# Altium schematic symbol library General.SchLib: 27 symbols
Pins are listed as number, name and electrical type; pins without a type are passive.

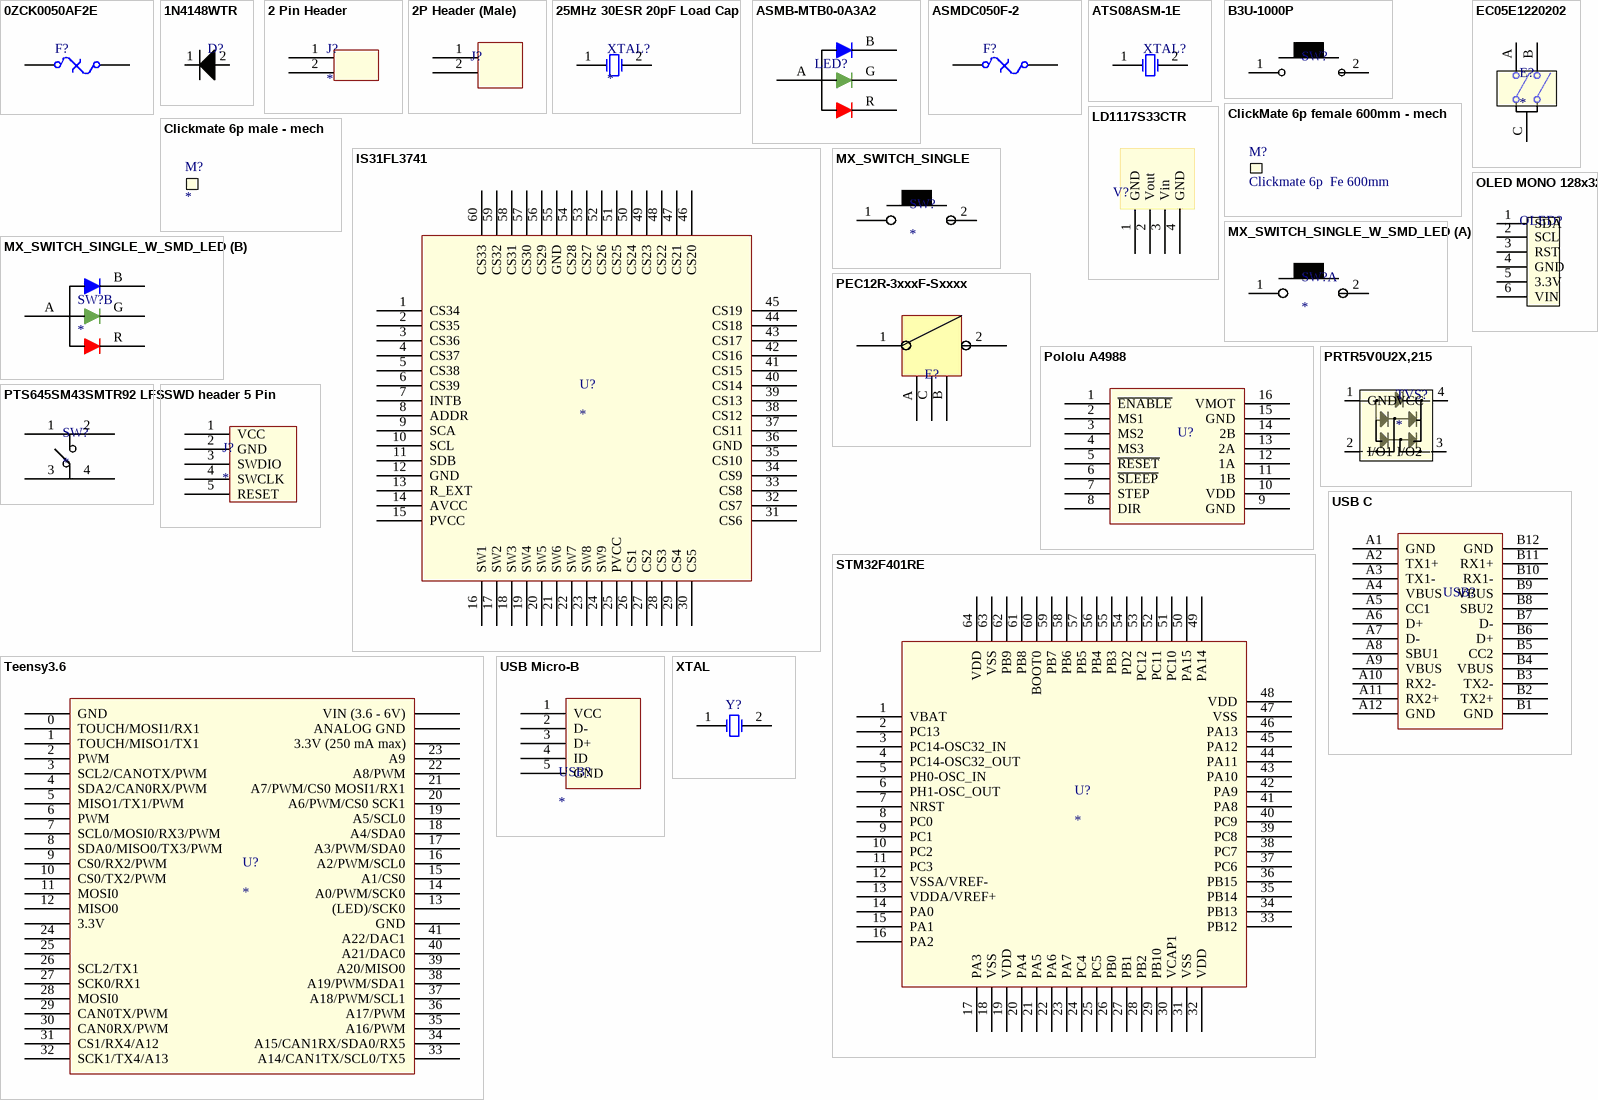
[diagram p0: symbols 0ZCK0050AF2E to XTAL]

## 0ZCK0050AF2E
designator F?
Thermal Fuse; Published: 24-Mar-1999; LatestRevisionDate: 17-Jul-2002; LatestRevisionNote: Re-released for DXP Platform.; PackageReference: PIN-W2/E2.8; Publisher: Altium Limited; PackageDescription: Thru-Hole; 2 Leads; Supplier 1: Mouser; Supplier Part Number 1: 530-0ZCK0050AF2E
footprint 0ZCK0050AF2E (Polyfuse 500mA hold 1A trip 0805)
pins: 1, 2

## 1N4148WTR
designator D?  (value not drawn)
Supplier 1: Digi-Key; Supplier Part Number 1: 1655-1360-1-ND
footprint SOD-123
pins: 1, 2

## 2 Pin Header
designator J?
footprint 2 Pin Header
pins: 1, 2

## 2P Header (Male)
designator J?  (value not drawn)
Supplier 1: Mouser; Supplier Part Number 1: 571-1037771
pins: 1 0, 2 1

## 25MHz 30ESR 20pF Load Cap
designator XTAL?
Supplier 1: Mouser; Supplier Part Number 1: 774-ATS25ASM-1E
footprint ATS25ASM-1E (25MHz Crystal)
pins: 1 OSC1, 2 OSC2

## ASMB-MTB0-0A3A2
designator LED?  (value not drawn)
Supplier 1: Mouser; Supplier Part Number 1: 630-ASMB-MTB0-0A3A2
footprint smd led (LED)
pins: A, B, G, R

## ASMDC050F-2
designator F?
Thermal Fuse; Published: 24-Mar-1999; LatestRevisionDate: 17-Jul-2002; LatestRevisionNote: Re-released for DXP Platform.; PackageReference: PIN-W2/E2.8; Publisher: Altium Limited; PackageDescription: Thru-Hole; 2 Leads; Supplier 1: Mouser; Supplier Part Number 1: 650-MINIASMDC050F-2
footprint ASMDC050F-2 (Resettable Fuses - PPTC .5A 60VDC 10A 2920 AEC-Q200 1A Trip)
pins: 1, 2

## ATS08ASM-1E
designator XTAL?  (value not drawn)
8MHz 60ESR 20pF; Supplier 1: Mouser; Supplier Part Number 1: 774-ATS08ASM-1E
footprint ATS25ASM-1E (25MHz Crystal)
pins: 1 OSC1, 2 OSC2

## B3U-1000P
designator SW?  (value not drawn)
Supplier 1: Mouser; Supplier Part Number 1: 653-B3U-1000P
footprint B3U-1000P (Switch Tactile SPST-NO 0.05A 12V)
pins: 1, 2

## ClickMate 6p female 600mm - mech
designator M?, comment Clickmate 6p  Fe 600mm  (mechanical)
Supplier 1: Digi-Key; Supplier Part Number 1: WM16513-ND

## Clickmate 6p male - mech
designator M?  (mechanical)
Supplier 1: Mouser; Supplier Part Number 1: 538-502585-0670

## EC05E1220202
designator E?
Supplier 1: Mouser; Supplier Part Number 1: 688-EC05E1220202
footprint EC05E1220202 (encoder, 4.5mm)
pins: A, B, C

## IS31FL3741
designator U?
Supplier 1: Mouser; Supplier Part Number 1: 870-IS31FL3741QFLS4T
footprint QFN-60 ISSI (QFN, 60-Leads, Body 7.00x7.00mm, Pitch 0.40mm, Thermal Pad 5.25x5.25mm, IPC Medium Density)
pins: 1 CS34, 2 CS35, 3 CS36, 4 CS37, 5 CS38, 6 CS39, 7 INTB, 8 ADDR, 9 SCA, 10 SCL, 11 SDB, 12 GND, 13 R_EXT, 14 AVCC, 15 PVCC, 16 SW1, 17 SW2, 18 SW3, 19 SW4, 20 SW5, 21 SW6, 22 SW7, 23 SW8, 24 SW9, 25 PVCC, 26 CS1, 27 CS2, 28 CS3, 29 CS4, 30 CS5, 31 CS6, 32 CS7, 33 CS8, 34 CS9, 35 CS10, 36 GND, 37 CS11, 38 CS12, 39 CS13, 40 CS14, 41 CS15, 42 CS16, 43 CS17, 44 CS18, 45 CS19, 46 CS20, 47 CS21, 48 CS22, 49 CS23, 50 CS24, 51 CS25, 52 CS26, 53 CS27, 54 CS28, 55 GND, 56 CS29, 57 CS30, 58 CS31, 59 CS32, 60 CS33

## LD1117S33CTR
designator V?, comment 3.3Vreg  (value not drawn)
Supplier 1: Mouser; Supplier Part Number 1: 511-LD1117S33C
footprint SOT223 STM (SOT223, 4-Leads, Body 6.50x7.00mm (avg), Pitch 2.30mm, IPC High Density)
pins: 1 GND, 2 Vout, 3 Vin, 4 GND

## MX_SWITCH_SINGLE
designator SW?
pins: 1, 2

## MX_SWITCH_SINGLE_W_SMD_LED
designator SW?
Supplier 1: Mouser; Supplier Part Number 1: 630-ASMB-MTB0-0A3A2
footprint SWITCH_U1_W_LED (single mx switch w surface mount led underneath)
footprint SWITCH_U1.25_W_LED (single mx switch w surface mount led underneath)
footprint SWITCH_U1.50_W_LED (single mx switch w surface mount led underneath)
footprint SWITCH_U1.75_W_LED (single mx switch w surface mount led underneath)
footprint SWITCH_U2_W_LED (U2 mx switch w surface mount led underneath)
footprint SWITCH_U2.25_W_LED (U2 mx switch w surface mount led underneath)
footprint SWITCH_U2.75_W_LED (U2 mx switch w surface mount led underneath)
footprint SWITCH_U6.25_W_LED - duplicate (U6.25 mx switch w surface mount led underneath)
footprint SWITCH_U2.25_W_LED inverse (U2 mx switch w surface mount led underneath)
footprint SWITCH_U2_W_LED - vert (U2 mx switch w surface mount led underneath)
part A pins: 1, 2
part B pins: A, B, G, R

## OLED MONO 128x32
designator OLED?  (value not drawn)
Supplier 1: Mouser; Supplier Part Number 1: 485-931
footprint 5025850670 (CONN SGL R/A RCPT 6CKT CLIK-MATE)
pins: 1 SDA, 2 SCL, 3 RST, 4 GND, 5 3.3V, 6 VIN

## PEC12R-3xxxF-Sxxxx
designator E?  (value not drawn)
footprint PEC12R-3xxxF-Sxxxx (Vertical Rotary Encoder)
pins: 1, 2, A, B, C

## Pololu A4988
designator U?  (value not drawn)
pins: 1 ~{ENABLE}, 2 MS1, 3 MS2, 4 MS3, 5 ~{RESET}, 6 ~{SLEEP}, 7 STEP, 8 DIR, 9 GND, 10 VDD, 11 1B, 12 1A, 13 2A, 14 2B, 15 GND, 16 VMOT

## PRTR5V0U2X,215
designator TVS?
Supplier 1: Mouser; Supplier Part Number 1: 771-PRTR5V0U2X-T/R
footprint SOT143B-RF (Reflow standard, nexperia)
pins: 1 GND, 2 I/O1, 3 I/O2, 4 VCC

## PTS645SM43SMTR92 LFS
designator SW?
footprint PTS645SM43SMTR92 LFS (Surface mount tac button)
pins: 1, 2, 3, 4

## STM32F401RE
designator U?
Supplier 1: Mouser; Supplier Part Number 1: 511-STM32F401RET6
footprint LQFP64-STM32
pins: 1 VBAT, 2 PC13, 3 PC14-OSC32_IN, 4 PC14-OSC32_OUT, 5 PH0-OSC_IN, 6 PH1-OSC_OUT, 7 NRST, 8 PC0, 9 PC1, 10 PC2, 11 PC3, 12 VSSA/VREF-, 13 VDDA/VREF+, 14 PA0, 15 PA1, 16 PA2, 17 PA3, 18 VSS, 19 VDD, 20 PA4, 21 PA5, 22 PA6, 23 PA7, 24 PC4, 25 PC5, 26 PB0, 27 PB1, 28 PB2, 29 PB10, 30 VCAP1, 31 VSS, 32 VDD, 33 PB12, 34 PB13, 35 PB14, 36 PB15, 37 PC6, 38 PC7, 39 PC8, 40 PC9, 41 PA8, 42 PA9, 43 PA10, 44 PA11, 45 PA12, 46 PA13, 47 VSS, 48 VDD, 49 PA14, 50 PA15, 51 PC10, 52 PC11, 53 PC12, 54 PD2, 55 PB3, 56 PB4, 57 PB5, 58 PB6, 59 PB7, 60 BOOT0, 61 PB8, 62 PB9, 63 VSS, 64 VDD

## SWD header 5 Pin
designator J?
footprint SWD 5 Pin
pins: 1 VCC, 2 GND, 3 SWDIO, 4 SWCLK, 5 RESET

## Teensy3.6
designator U?
pins: 0 TOUCH/MOSI1/RX1, 1 TOUCH/MISO1/TX1, 2 PWM, 3 SCL2/CANOTX/PWM, 4 SDA2/CAN0RX/PWM, 5 MISO1/TX1/PWM, 6 PWM, 7 SCL0/MOSI0/RX3/PWM, 8 SDA0/MISO0/TX3/PWM, 9 CS0/RX2/PWM, 10 CS0/TX2/PWM, 11 MOSI0, 12 MISO0, 13 (LED)/SCK0, 14 A0/PWM/SCK0, 15 A1/CS0, 16 A2/PWM/SCL0, 17 A3/PWM/SDA0, 18 A4/SDA0, 19 A5/SCL0, 20 A6/PWM/CS0 SCK1, 21 A7/PWM/CS0 MOSI1/RX1, 22 A8/PWM, 23 A9, 24, 25, 26 SCL2/TX1, 27 SCK0/RX1, 28 MOSI0, 29 CAN0TX/PWM, 30 CAN0RX/PWM, 31 CS1/RX4/A12, 32 SCK1/TX4/A13, 33 A14/CAN1TX/SCL0/TX5, 34 A15/CAN1RX/SDA0/RX5, 35 A16/PWM, 36 A17/PWM, 37 A18/PWM/SCL1, 38 A19/PWM/SDA1, 39 A20/MISO0, 40 A21/DAC0, 41 A22/DAC1, ?1 3.3V (250 mA max), ?2 ANALOG GND, ?3 VIN (3.6 - 6V), ?4 GND, ?5 GND, ?6 3.3V

## USB C
designator USB?  (value not drawn)
Supplier 1: Mouser; Supplier Part Number 1: 538-105455-0101
footprint USB C
pins: A1 GND, A2 TX1+, A3 TX1-, A4 VBUS, A5 CC1, A6 D+, A7 D-, A8 SBU1, A9 VBUS, A10 RX2-, A11 RX2+, A12 GND, B1 GND, B2 TX2+, B3 TX2-, B4 VBUS, B5 CC2, B6 D+, B7 D-, B8 SBU2, B9 VBUS, B10 RX1-, B11 RX1+, B12 GND

## USB Micro-B
designator USB?
Supplier 1: Digi-Key; Supplier Part Number 1: 609-4613-6-ND
footprint USB MICRO B (USB MICRO B SMT)
pins: 1 VCC, 2 D-, 3 D+, 4 ID, 5 GND

## XTAL
designator Y?
Crystal Oscillator; Published: 8-Jun-2000; LatestRevisionDate: 17-Jul-2002; LatestRevisionNote: Re-released for DXP Platform.; PackageReference: R38; Publisher: Altium Limited; PackageDescription: Crystal, Thru-Hole; 2 Leads; Body 3.1 x 8.2 mm (Dia.xH)
footprint R38 (Crystal, Thru-Hole; 2 Leads; Body 3.1 x 8.2 mm (Dia.xH))
simulation model XTAL (Spice Subcircuit)
pins: 1 OSC1, 2 OSC2